# Altium footprint library Flex_C_0805(2012).PcbLib: 1 footprints
Each footprint in its own frame and in the unit in brackets; x right, y up, seen from the top. Pads: shape width x height; smd on the part's side, far side on the other; paste and mask are expansions set on the pad; w line width, h text height; cw(c..) or ccw(c..) is an arc to the next point about the centre after c.
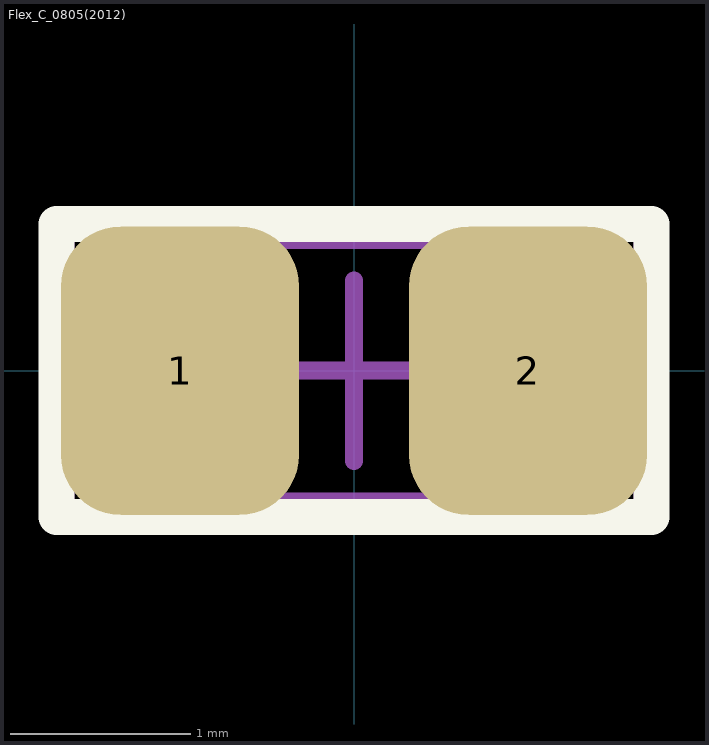
[diagram p0: the footprint, top view; thin cyan lines are the x and y axes]

## Flex_C_0805(2012) [mil] "Chip Capacitor, Body 2.0x1.3mm, Flex"
height 43.31
pads (2):
  rrect50% 52x63 smd paste-7.87 mask-3.94: 1(-38,0) 2(38,0)
Top Overlay:
  lines w7.87: -65,-32 65,-32 65,32 -65,32 -65,-32
Mechanical 13:
  lines w3.94: -43.31,-28.54 -43.31,28.54 43.31,28.54 43.31,-28.54 -43.31,-28.54
Mechanical 15:
  lines w3.94: -19.68,0 19.69,0 ; 0,-19.68 0,19.69 ; -63,-33.46 -63,31.5 63,31.5 63,22.65 63,-33.46 -63,-33.46 ; -55.12,-31.5 -55.12,31.5 55.12,31.5 55.12,-31.5 -55.12,-31.5
3D body: height 43.31, standoff 0, extent -43.31,-28.54 43.31,28.54